# EAGLE library part ADG731 (library bed_components)
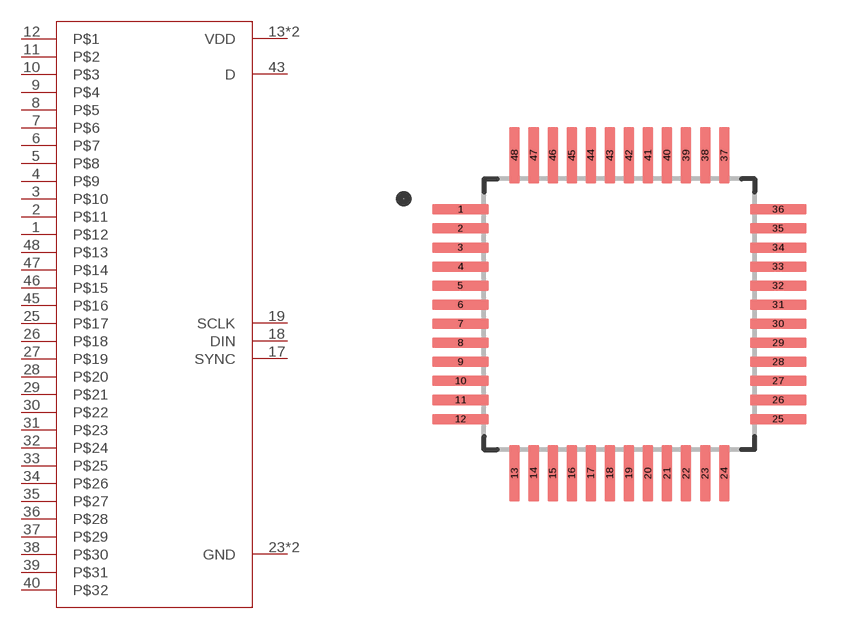
[diagram p1: symbol with the pads of QFP50P900X900X160-49N; footprint QFP50P900X900X160-49N]

Designator prefix U

## ADG731 (A1_MIN: 0.15; A_MAX: 1.6; B_MAX: 0.27; B_MIN: 0.17; B_NOM: 0.22; D1_MAX: 7.1; D1_MIN: 6.9; D1_NOM: 7.0; D2_NOM: 0.0; D_MAX: 9.1; D_MIN: 8.9; D_NOM: 9.0; E1_MAX: 7.1; E1_MIN: 6.9; E1_NOM: 7.0; E2_NOM: 0.0; ENOM: 0.5; E_MAX: 9.1; E_MIN: 8.9; E_NOM: 9.0; L_MAX: 0.75; L_MIN: 0.45; L_NOM: 0.6; MANUFACTURER: Maxim Integrated; PIN_COUNT_D: 12.0; PIN_COUNT_E: 12.0; SNAPEDA_PACKAGE_ID: 70996; STANDARD: IPC 7351B)  [QFP50P900X900X160-49N]
1  P$12
2  P$11
3  P$10
4  P$9
5  P$8
6  P$7
7  P$6
8  P$5
9  P$4
10  P$3
11  P$2
12  P$1
13  VDD
14  VDD
17  SYNC
18  DIN
19  SCLK
23  GND
24  GND
25  P$17
26  P$18
27  P$19
28  P$20
29  P$21
30  P$22
31  P$23
32  P$24
33  P$25
34  P$26
35  P$27
36  P$28
37  P$29
38  P$30
39  P$31
40  P$32
43  D
45  P$16
46  P$15
47  P$14
48  P$13

## Footprint QFP50P900X900X160-49N (pad centres in mm)
smd 1.49 x 0.28: 1 -4.17,2.75; 2 -4.17,2.25; 3 -4.17,1.75; 4 -4.17,1.25; 5 -4.17,0.75; 6 -4.17,0.25; 7 -4.17,-0.25; 8 -4.17,-0.75; 9 -4.17,-1.25; 10 -4.17,-1.75; 11 -4.17,-2.25; 12 -4.17,-2.75; 25 4.17,-2.75; 26 4.17,-2.25; 27 4.17,-1.75; 28 4.17,-1.25; 29 4.17,-0.75; 30 4.17,-0.25; 31 4.17,0.25; 32 4.17,0.75; 33 4.17,1.25; 34 4.17,1.75; 35 4.17,2.25; 36 4.17,2.75
smd 0.28 x 1.49: 13 -2.75,-4.17; 14 -2.25,-4.17; 15 -1.75,-4.17; 16 -1.25,-4.17; 17 -0.75,-4.17; 18 -0.25,-4.17; 19 0.25,-4.17; 20 0.75,-4.17; 21 1.25,-4.17; 22 1.75,-4.17; 23 2.25,-4.17; 24 2.75,-4.17; 37 2.75,4.17; 38 2.25,4.17; 39 1.75,4.17; 40 1.25,4.17; 41 0.75,4.17; 42 0.25,4.17; 43 -0.25,4.17; 44 -0.75,4.17; 45 -1.25,4.17; 46 -1.75,4.17; 47 -2.25,4.17; 48 -2.75,4.17